# EAGLE library part 74*678 (library 74xx-eu)
16-bit address COMPARATOR, latch
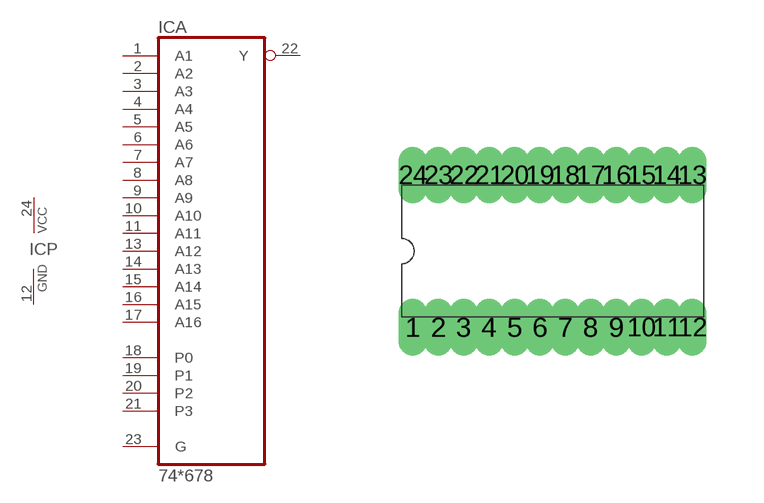
[diagram p272: symbol with the pads of DIL24-6; footprint DIL24-6]

Designator prefix IC; gates A=74678 P=PWRN

## 74678NT, 74ALS678NT  [DIL24-6]
1  A:A1  in
2  A:A2  in
3  A:A3  in
4  A:A4  in
5  A:A5  in
6  A:A6  in
7  A:A7  in
8  A:A8  in
9  A:A9  in
10  A:A10  in
11  A:A11  in
12  P:GND  pwr
13  A:A12  in
14  A:A13  in
15  A:A14  in
16  A:A15  in
17  A:A16  in
18  A:P0  in
19  A:P1  in
20  A:P2  in
21  A:P3  in
22  A:Y  out
23  A:G  in
24  P:VCC  pwr

## Footprint DIL24-6 (pad centres in mm)
Dual In Line Package 0.6 inch
drill 0.203 long: 1 -3.493,-1.905; 2 -2.857,-1.905; 3 -2.223,-1.905; 4 -1.587,-1.905; 5 -0.953,-1.905; 6 -0.318,-1.905; 7 0.318,-1.905; 8 0.953,-1.905; 9 1.587,-1.905; 10 2.223,-1.905; 11 2.857,-1.905; 12 3.493,-1.905; 13 3.493,1.905; 14 2.857,1.905; 15 2.223,1.905; 16 1.587,1.905; 17 0.953,1.905; 18 0.318,1.905; 19 -0.318,1.905; 20 -0.953,1.905; 21 -1.587,1.905; 22 -2.223,1.905; 23 -2.857,1.905; 24 -3.493,1.905